# EAGLE library part 6N137 (library perehodnik)
MOTOROLA OPTO COUPLER
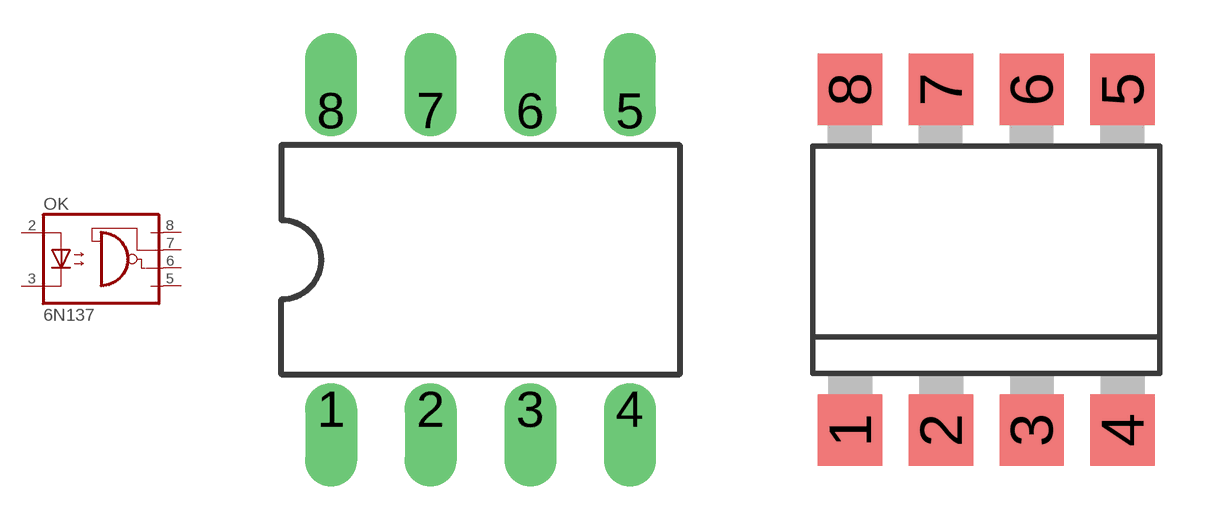
[diagram p2: symbol with the pads of DIL08; footprints DIL08, DIL8-SMD]

Designator prefix OK

## 6N137 (MPN: 6N137; OC_FARNELL: 1328376; OC_NEWARK: 52M1895)  [DIL08]
2  A  pas
3  C  pas
5  GND  pas
6  VO  pas
7  VE  pas
8  VCC  pas

## 6N137S  [DIL8-SMD]
Pads as for DIL08

## 6N137D+S  [DIL08+S]
2  A  pas
3  C  pas
5  GND  pas
6  VO  pas
7  VE  pas
8  VCC  pas
10  A  pas
11  C  pas
13  GND  pas
14  VO  pas
15  VE  pas
16  VCC  pas

## Footprint DIL08 (pad centres in mm)
Dual In Line Package
drill 0.813 offset: 1 -3.81,-3.81; 2 -1.27,-3.81; 3 1.27,-3.81; 4 3.81,-3.81; 5 3.81,3.81; 6 1.27,3.81; 7 -1.27,3.81; 8 -3.81,3.81

## Footprint DIL8-SMD (pad centres in mm)
Dual In Line SMD 8 pol. Source: LITE-ON ELECTRONICS, LTV816.pdf
smd 1.8 x 2: 1 -3.81,-4.77; 2 -1.27,-4.77; 3 1.27,-4.77; 4 3.81,-4.77; 5 3.81,4.77; 6 1.27,4.77; 7 -1.27,4.77; 8 -3.81,4.77

## Footprint DIL08+S (pad centres in mm)
drill 0.813 offset: 1 -3.81,-3.81; 2 -1.27,-3.81; 3 1.27,-3.81; 4 3.81,-3.81; 5 3.81,3.81; 6 1.27,3.81; 7 -1.27,3.81; 8 -3.81,3.81
smd 1.8 x 1.6: 9 -3.81,-5.07; 10 -1.27,-5.07; 11 1.27,-5.07; 12 3.81,-5.07; 13 3.81,5.07; 14 1.27,5.07; 15 -1.27,5.07; 16 -3.81,5.07